# Altium footprint library NetTroll.PcbLib: 63 footprints (part 2 of 4)
Each footprint in its own frame and in the unit in brackets; x right, y up, seen from the top. Pads: shape width x height; smd on the part's side, far side on the other; paste and mask are expansions set on the pad; w line width, h text height; cw(c..) or ccw(c..) is an arc to the next point about the centre after c.
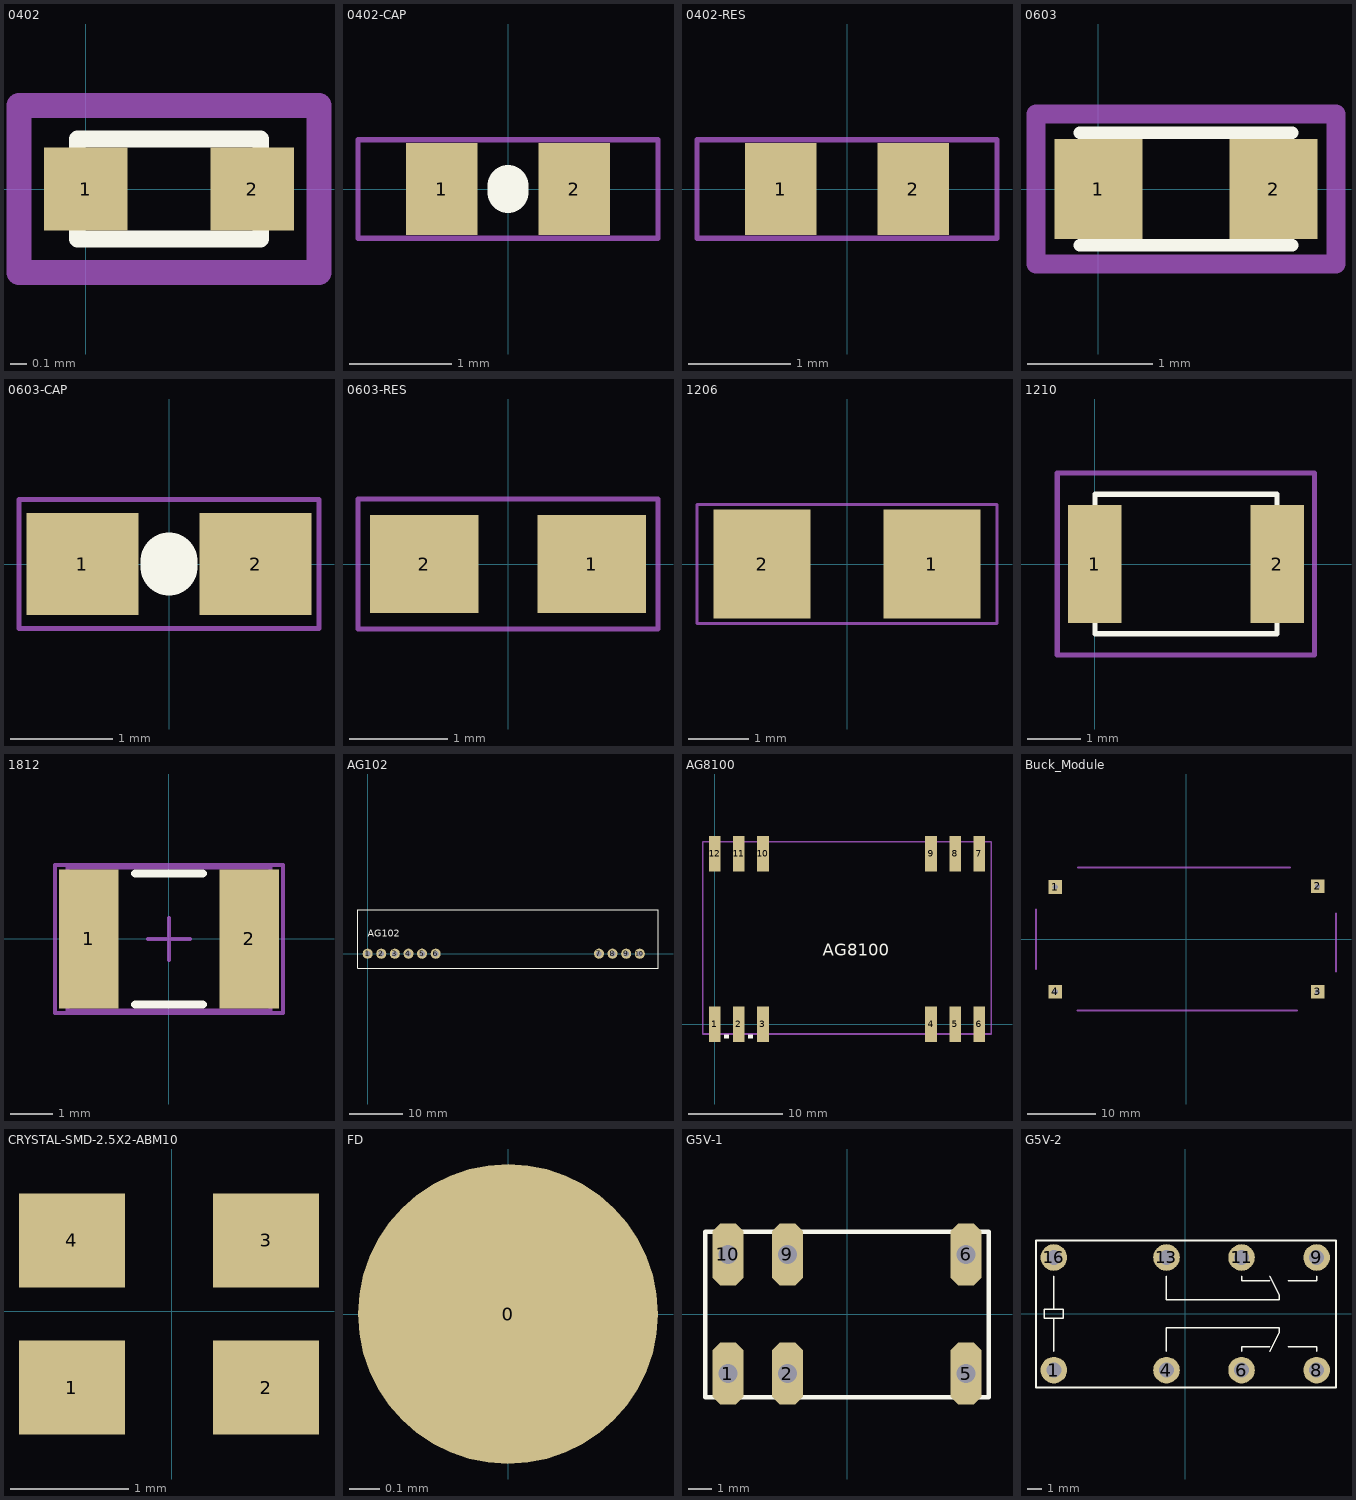
[diagram p1: the footprints below, top view; thin cyan lines are the x and y axes]

## 0402 [mm] "Chip Resistor; Body 1.1 x 0.5 mm (LxW typ)"
height 2.54
pads (2):
  rect 0.5x0.5 smd paste+0 mask+0.1: 1(0,0) 2(1,0)
Top Overlay:
  lines w0.1: -0.05,-0.3 -0.05,0.3 1.05,0.3 1.05,-0.3 -0.05,-0.3
Mechanical 2:
  lines w0.15: -0.4,-0.5 -0.4,0.5 1.4,0.5 1.4,-0.5 -0.4,-0.5

## 0402-CAP [mm]
pads (2):
  rect 0.7x0.9 smd: 1(-0.65,0) 2(0.65,0)
Top Overlay:
  lines w0.406: 0,-0.031 0,0.031
Mechanical 13:
  lines w0.051: -1.473,-0.483 1.473,-0.483 1.473,0.483 -1.473,0.483 -1.473,-0.483

## 0402-RES [mm]
pads (2):
  rect 0.7x0.9 smd: 1(-0.65,0) 2(0.65,0)
Mechanical 13:
  lines w0.051: -1.473,-0.483 1.473,-0.483 1.473,0.483 -1.473,0.483 -1.473,-0.483

## 0603 [mm]
height 0.8
pads (2):
  rect 0.7x0.8 smd paste+0 mask+0.1: 1(0,0) 2(1.4,0)
Top Overlay:
  lines w0.1: -0.15,-0.45 1.55,-0.45 ; -0.15,0.45 1.55,0.45
Mechanical 2:
  lines w0.15: -0.5,-0.6 1.9,-0.6 1.9,0.6 -0.5,0.6 -0.5,-0.6
3D body: height 0.53, standoff 0, extent -0.15,-0.45 1.55,0.45

## 0603-CAP [mm]
pads (2):
  rect 1.1x1 smd: 1(-0.85,0) 2(0.85,0)
Top Overlay:
  lines w0.559: 0,-0.03 0,0.03
Mechanical 13:
  lines w0.051: -1.473,-0.635 1.473,-0.635 1.473,0.635 -1.473,0.635 -1.473,-0.635

## 0603-RES [mm]
pads (2):
  rect 1.1x1 smd: 1(0.85,0) 2(-0.85,0)
Mechanical 13:
  lines w0.051: -1.524,-0.66 1.524,-0.66 1.524,0.66 -1.524,0.66 -1.524,-0.66

## 1206 [mm]
pads (2):
  rect 1.6x1.8 smd: 1(1.4,0) 2(-1.4,0)
Mechanical 13:
  lines w0.051: -2.473,-0.983 2.473,-0.983 2.473,0.983 -2.473,0.983 -2.473,-0.983

## 1210 [mm] "Chip Resistor; Body 3.2 x 1.6 mm (LxW typ)"
height 2.8
pads (2):
  rect 1x2.2 smd paste+0 mask+0.1: 1(0,0) 2(3.4,0)
Top Overlay:
  lines w0.1: 0,-1.3 0,1.3 3.4,1.3 3.4,-1.3 0,-1.3
Mechanical 2:
  lines w0.1: -0.7,-1.7 -0.7,1.7 4.1,1.7 4.1,-1.7 -0.7,-1.7

## 1812 [mm] "Chip Capacitor, Body 4.5x3.2mm, IPC High Density"
height 1.4
pads (2):
  rect 1.4x3.3 smd: 1(-1.9,0) 2(1.9,0)
Top Overlay:
  lines w0.2: -0.8,-1.55 0.8,-1.55 ; -0.8,1.55 0.8,1.55
Mechanical 13:
  lines w0.1: -2.4,-1.7 -2.4,1.7 2.4,1.7 2.4,-1.7 -2.4,-1.7
Mechanical 15:
  lines w0.1: -0.5,0 0.5,0 ; 0,-0.5 0,0.5 ; -2.7,-1.75 -2.7,1.75 2.7,1.75 2.7,-1.75 -2.7,-1.75
3D body: height 2.6, standoff 0, extent -2.4,-1.7 2.4,1.7

## AG102 [mil]
pads (10):
  round 74 hole 40: 1(0,0) 2(100,0) 3(200,0) 4(300,0) 5(400,0) 6(500,0) 7(1700,0) 8(1800,0) 9(1900,0) 10(2000,0)
Top Overlay:
  rectangle: 1690,-10 1710,10
  rectangle: 490,-10 510,10
  rectangle: 390,-10 410,10
  rectangle: 290,-10 310,10
  rectangle: 190,-10 210,10
  rectangle: 90,-10 110,10
  rectangle: -10,-10 10,10
  rectangle: 1790,-10 1810,10
  rectangle: 1890,-10 1910,10
  rectangle: 1990,-10 2010,10
  lines w8: -70.87,-106.3 -70.87,322.83 2133.85,322.83 2133.85,-106.3 -70.87,-106.3
  text "AG102" at 0,125 h50

## AG8100 [mm]
pads (12):
  rect 1.25x3.75 smd: 1(0,0) 2(2.54,0) 3(5.08,0) 4(22.86,0) 5(25.4,0) 6(27.94,0) 7(27.94,18) 8(25.4,18) 9(22.86,18) 10(5.08,18) 11(2.54,18) 12(0,18)
Top Overlay:
  rectangle: 0.975,-1.5 1.5,-1.1
  rectangle: 3.5,-1.5 4.025,-1.1
  text "AG8100" at 11.43,7.205 h1.27
Mechanical 15:
  lines w0.203: -1.27,-1.05 -1.27,19.27 29.21,19.27 29.21,-1.05 -1.27,-1.05
3D body: height 10, standoff 0, extent 21.55,-1 29.05,2.075
3D body: height 10, standoff 0, extent 21.63,16.3 29.13,19.375
3D body: height 10, standoff 0, extent -1.25,16.2 6.25,19.275
3D body: height 10, standoff 0, extent -1.2,-1.125 6.3,1.95
3D body: height 10, standoff 1.5, extent -1.245,-1.05 29.13,19.375

## Buck_Module [mil]
height 472.44
pads (4):
  rect 78.74x78.74 / inner rect 78.74x78.74 / far side round 78.74 hole 30: 1(-755,300) 3(760,-305) 4(-755,-305)
  rect 78.74x78.74 / inner round 39.37 / far side round 39.37 hole 30: 2(760,305)
Mechanical 1:
  lines w10: -866.14,-173.86 -866.14,172.24 ; -626.61,-413.39 641.61,-413.39 ; -625,413.39 601.61,413.39 ; 866.14,-188.86 866.14,148.86
  text "OUT" at 785,-75 h60
  text "IN" at -725,-45 h60
3D body: height 590.55, standoff 118.11, extent -855,-400 855,400

## CRYSTAL-SMD-2.5X2-ABM10 [mm]
pads (4):
  rect 0.9x0.8 smd: 1(-0.85,-0.65) 2(0.8,-0.65) 3(0.8,0.6) 4(-0.85,0.6)
3D body: height 0.5, standoff 0, extent -1.3,-1.05 1.3,1.05

## FD [mm]
pads (1):
  round 1 smd paste-2 mask+0.5: 0(0,0)

## G5V-1 [mil]
pads (6):
  oct 52x104 hole 32: 1(-200,-100) 2(-100,-100) 5(200,-100) 6(200,100) 9(-100,100) 10(-200,100)
Top Overlay:
  lines w8: -238.19,-139.76 -238.19,138.19 238.19,138.19 238.19,-139.76 -238.19,-139.76
3D body: height 393.7, standoff 0, extent -241.14,-142.72 241.14,142.72

## G5V-2 [mm]
pads (8):
  round 1.8 hole 1: 1(-8.89,-3.81) 4(-1.27,-3.81) 6(3.81,-3.81) 8(8.89,-3.81) 9(8.89,3.81) 11(3.81,3.81) 13(-1.27,3.81) 16(-8.89,3.81)
Top Overlay:
  lines w0.102: -8.89,-2.54 -8.89,-0.318 ; -8.89,2.54 -8.89,0.318 ; -1.27,-2.54 -1.27,-0.953 6.35,-0.953 6.35,-1.27 5.715,-2.54 ; -1.27,2.54 -1.27,0.953 6.35,0.953 6.35,1.27 5.715,2.54 ; 3.81,-2.54 3.81,-2.222 5.715,-2.222 ; 3.81,2.54 3.81,2.222 5.715,2.222 ; 6.985,-2.222 8.89,-2.222 8.89,-2.54 ; 6.985,2.222 8.89,2.222 8.89,2.54 ; -8.89,-0.318 -9.525,-0.318 -9.525,0.318 -8.89,0.318 ; -8.89,-0.318 -8.255,-0.318 -8.255,0.318 -8.89,0.318
  lines w0.152: -10.099,-4.979 10.201,-4.979 10.201,4.952 -10.099,4.952 -10.099,-4.979